# Altium footprint library UU9LF.PcbLib: 1 footprints
Each footprint in its own frame and in the unit in brackets; x right, y up, seen from the top. Pads: shape width x height; smd on the part's side, far side on the other; paste and mask are expansions set on the pad; w line width, h text height; cw(c..) or ccw(c..) is an arc to the next point about the centre after c.
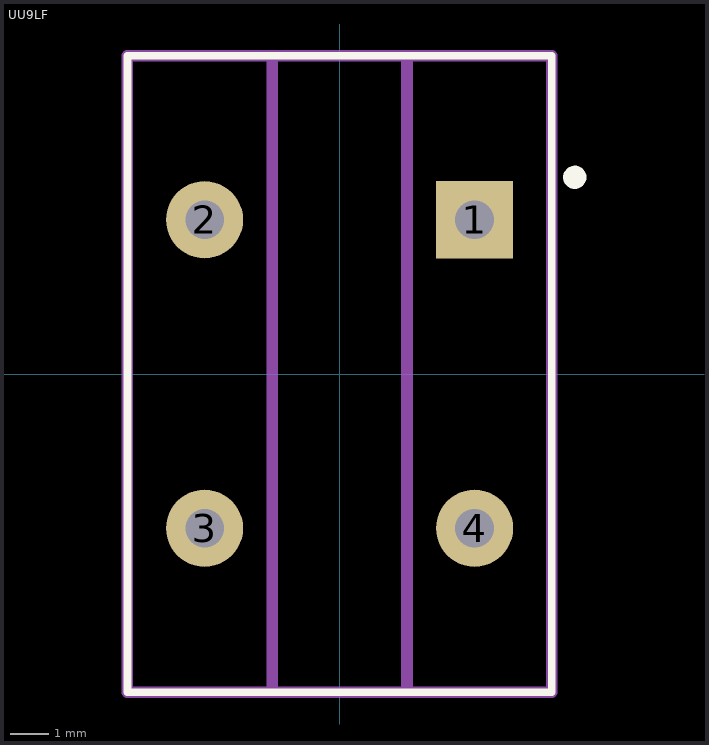
[diagram p0: the footprint, top view; thin cyan lines are the x and y axes]

## UU9LF [mm]
height 12.5
pads (4):
  rect 2x2 hole 1: 1(3.5,4)
  round 2 hole 1: 2(-3.5,4) 3(-3.5,-4) 4(3.5,-4)
Top Overlay:
  circle w0.3: c6.1,5.1 r0.15
  lines w0.2: -5.5,-8.25 -5.5,8.25 5.5,8.25 5.5,-8.25 -5.5,-8.25
Mechanical 1:
  lines w0.3: -1.75,-8.25 -1.75,8.25 ; 1.75,-8.25 1.75,8.25 ; -5.5,-8.25 5.5,-8.25 5.5,8.25 -5.5,8.25 -5.5,-8.25
3D body "UU9LF.step": height 16.31, standoff -3, extent -5.5,-8.141 5.5,8.141